# Altium footprint library Connectors_DIN.PcbLib: 1 footprints
Each footprint in its own frame and in the unit in brackets; x right, y up, seen from the top. Pads: shape width x height; smd on the part's side, far side on the other; paste and mask are expansions set on the pad; w line width, h text height; cw(c..) or ccw(c..) is an arc to the next point about the centre after c.
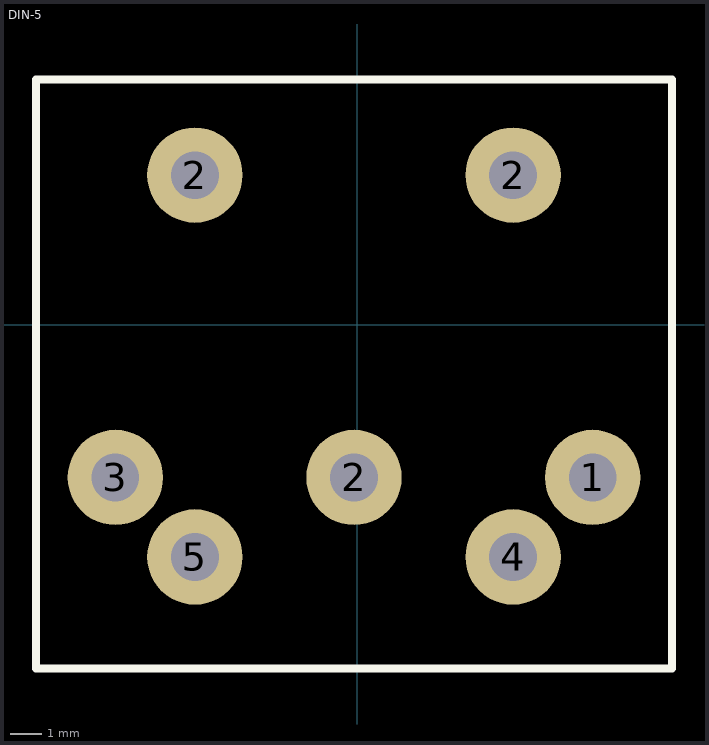
[diagram p0: the footprint, top view; thin cyan lines are the x and y axes]

## DIN-5 [mm]
pads (7):
  round 3 hole 1.5: 1(7.4,-4.8) 2(-5.1,4.7) 2(-0.1,-4.8) 2(4.9,4.7) 3(-7.6,-4.8) 4(4.9,-7.3) 5(-5.1,-7.3)
Top Overlay:
  lines w0.254: -10.1,-10.8 9.9,-10.8 9.9,7.7 -10.1,7.7 -10.1,-10.8
3D body "DIN-5_1.step": height 21.1, standoff -3.5, extent -10.05,-10.8 9.95,7.7